# Altium footprint library pedals-switches.PCBLIB: 26 footprints (part 1 of 2)
Each footprint in its own frame and in the unit in brackets; x right, y up, seen from the top. Pads: shape width x height; smd on the part's side, far side on the other; paste and mask are expansions set on the pad; w line width, h text height; cw(c..) or ccw(c..) is an arc to the next point about the centre after c.
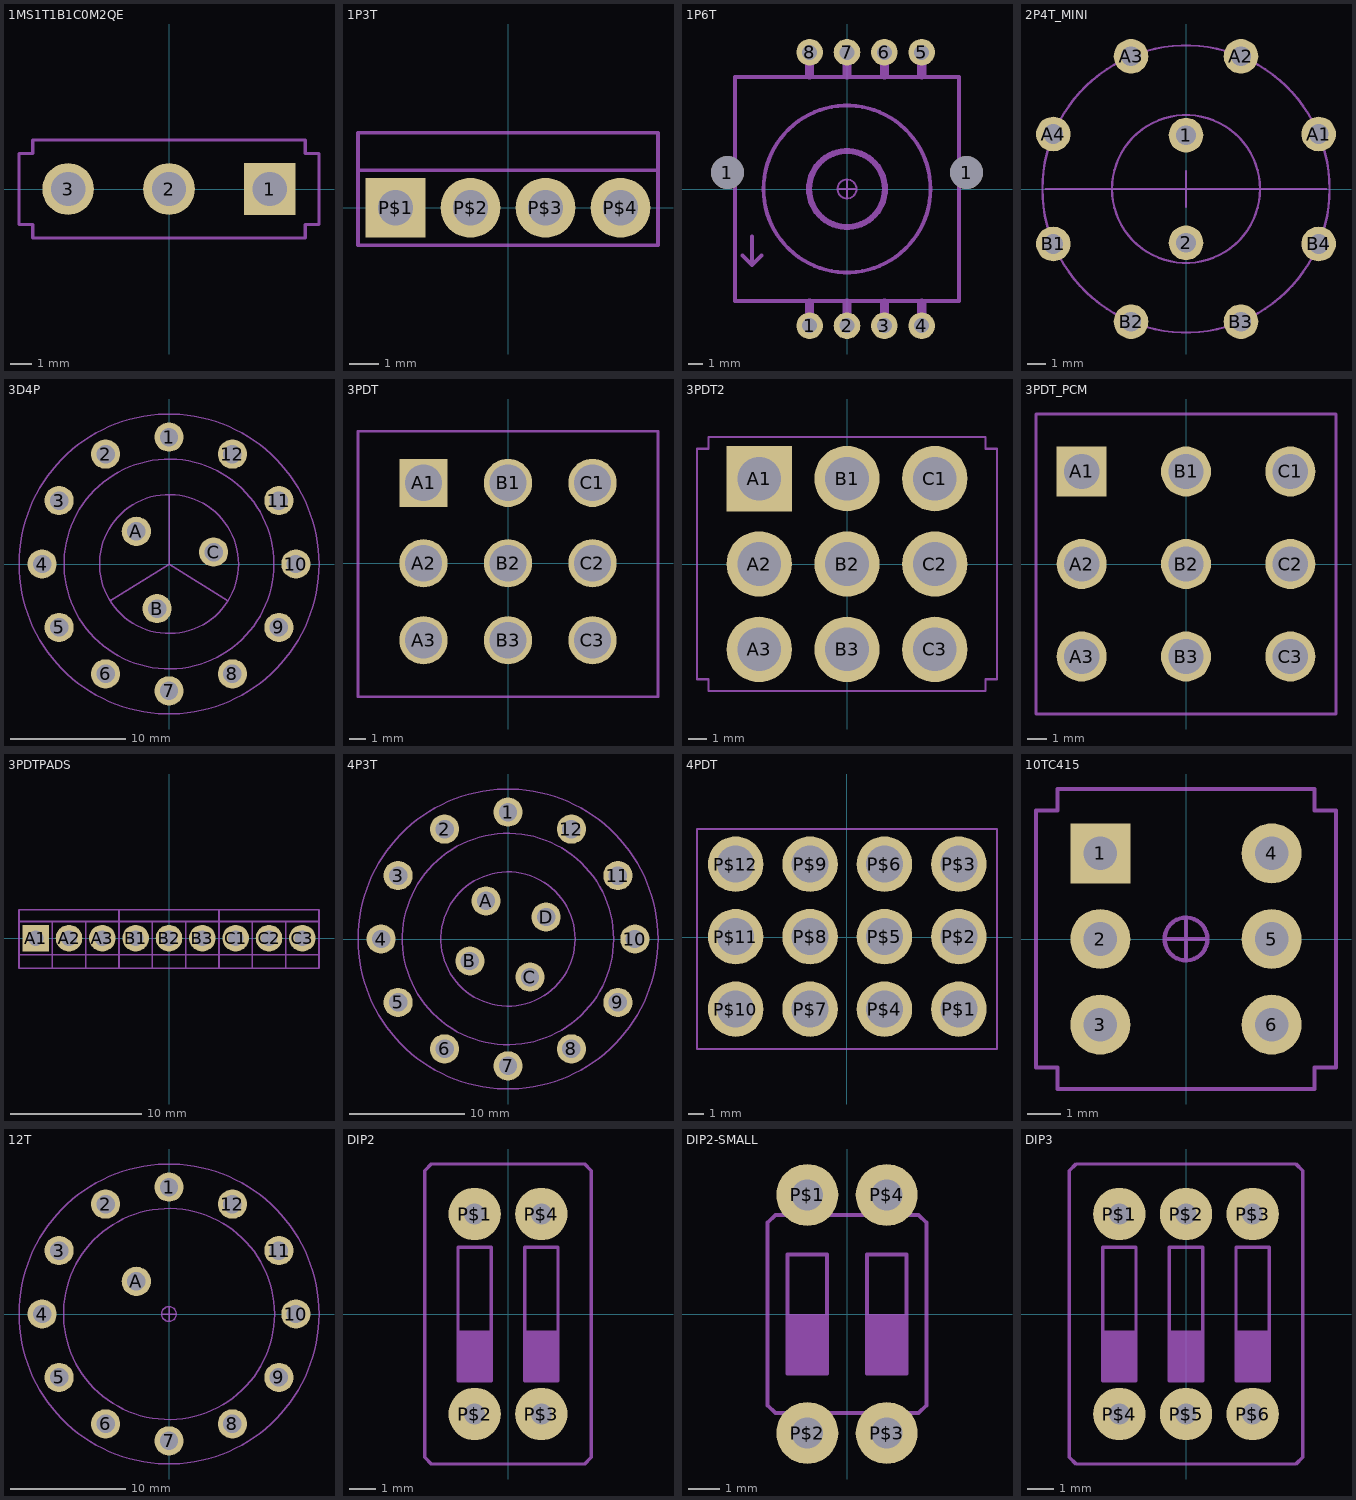
[diagram p0: the footprints below, top view; thin cyan lines are the x and y axes]

## 1MS1T1B1C0M2QE [mil]
pads (3):
  rect 94.48x94.48 hole 62.99: 1(185,0)
  round 94.48 hole 62.99: 2(0,0) 3(-185,0)
Mechanical 2:
  lines w6: -275,-65 -250,-65 -250,-90 250,-90 250,-65 275,-65 275,65 250,65 250,70 250,90 -250,90 -250,70 -250,65 -275,65 -275,-65
Mechanical 3:
  lines w5: -25,0 25,0 ; 0,-25 0,25
  lines w6: -275,-65 -275,65 -250,65 -250,70 -250,90 250,90 250,70 250,65 275,65 275,-65 250,-65 250,-90 -250,-90 -250,-65 -275,-65

## 1P3T [mil]
pads (4):
  rect 80x80 hole 47.24: P$1(-150,0)
  round 80 hole 47.24: P$2(-50,0) P$3(50,0) P$4(150,0)
Mechanical 2:
  lines w5: -200,50 200,50 ; -200,50 -200,-50 200,-50 200,50 ; -200,50 -200,100 200,100 200,50

## 1P6T [mil]
pads (10):
  round 86.61 hole 86.61: 1(-314.96,43.31) 1(314.96,43.31)
  round 70 hole 39.37: 1(-98.43,-360.24) 2(0,-360.24) 3(98.43,-360.24) 4(196.85,-360.24) 5(196.85,360.24) 6(98.43,360.24) 7(0,360.24) 8(-98.43,360.24)
Mechanical 3:
  circle w10: c0,0 r220.08
  circle w16: c0,0 r100
  circle w5: c0,0 r25
  lines w5: -25,0 25,0 ; 0,-25 0,25
  lines w10: -275,-175 -250,-200 ; -250,-125 -250,-200 ; -225,-175 -250,-200 ; -295.28,-295.28 295.28,-295.28 295.28,295.28 -295.28,295.28 -295.28,-295.28
  lines w24: -98.43,-350 -98.43,-300 ; -98.43,300 -98.43,350 ; 0,-350 0,-300 ; 0,300 0,350 ; 98.43,-350 98.43,-300 ; 98.43,300 98.43,350 ; 196.85,-350 196.85,-300 ; 196.85,300 196.85,350

## 2P4T_MINI [mil]
pads (10):
  round 76 hole 43.31: 1(0,118.11) 2(0,-118.11) A1(290.99,120.53) A2(120.53,290.99) A3(-120.53,290.99) A4(-290.99,120.53) B1(-290.99,-120.53) B2(-120.53,-290.99) B3(120.53,-290.99) B4(290.99,-120.53)
Mechanical 2:
  circle w5: c0,0 r314.96
  circle w5: c0,0 r162.33
  lines w5: -307.48,0 307.48,0 ; 0,-39.37 0,39.37
Mechanical 3:
  circle w5: c0,0 r314.96
  circle w5: c0,0 r162.33
  lines w5: -307.48,0 307.48,0 ; 0,-39.37 0,39.37

## 3D4P [mil]
pads (15):
  round 100 hole 62.99: 1(0,433.04) 2(-216.52,375.03) 3(-375.02,216.52) 4(-433.04,0) 5(-375.02,-216.51) 6(-216.52,-375.02) 7(0,-433.03) 8(216.51,-375.02) 9(375.01,-216.51) 10(433.02,0) 11(375.01,216.51) 12(216.51,375) A(-111.35,111.35) B(-40.76,-152.11) C(152.11,40.75)
Mechanical 2:
  circle w5: c0,0 r511.81
  circle w5: c0,0 r357.94
  circle w5: c0,0 r237.17
  lines w5: -200,-125 0,0 ; 0,235 0,0 ; 200,-125 0,0
Mechanical 3:
  circle w5: c0,0 r511.81
  circle w5: c0,0 r357.94
  circle w5: c0,0 r237.17
  lines w5: -200,-125 0,0 ; 0,235 0,0 ; 200,-125 0,0

## 3PDT [mil]
pads (9):
  rect 114.17x114.17 hole 86.61: A1(-200,190)
  round 114.17 hole 86.61: A2(-200,0) A3(-200,-182.5) B1(0,190) B2(0,0) B3(0,-182.5) C1(200,190) C2(200,0) C3(200,-182.5)
Mechanical 2:
  lines w6: -355.12,-315.75 355.12,-315.75 355.12,311.81 -355.12,311.81 -355.12,-315.75

## 3PDT2 [mm]
pads (9):
  rect 3.6x3.6 hole 2.4: A1(-4.83,4.7)
  round 3.6 hole 2.4: A2(-4.83,0) A3(-4.83,-4.7) B1(0,4.7) B2(0,0) B3(0,-4.7) C1(4.83,4.7) C2(4.83,0) C3(4.83,-4.7)
Mechanical 2:
  lines w0.127: -8.255,-6.35 -8.255,6.35 -7.62,6.35 -7.62,6.985 7.62,6.985 7.62,6.35 8.255,6.35 8.255,-6.35 7.62,-6.35 7.62,-6.985 -7.62,-6.985 -7.62,-6.35 -8.255,-6.35
Mechanical 3:
  circle w0.127: c0,0 r0.635
  lines w0.127: -0.635,0 0.635,0 ; 0,-0.635 0,0.635 ; -8.255,-6.35 -7.62,-6.35 -7.62,-6.985 7.62,-6.985 7.62,-6.35 8.255,-6.35 8.255,6.35 7.62,6.35 7.62,6.985 -7.62,6.985 -7.62,6.35 -8.255,6.35 -8.255,-6.35

## 3PDT_PCM [mm]
pads (9):
  rect 2.54x2.54 hole 1.8: A1(-5.3,4.7)
  round 2.54 hole 1.8: A2(-5.3,0) A3(-5.3,-4.7) B1(0,4.7) B2(0,0) B3(0,-4.7) C1(5.3,4.7) C2(5.3,0) C3(5.3,-4.7)
Mechanical 2:
  lines w0.152: -7.62,-7.62 7.62,-7.62 7.62,7.62 -7.62,7.62 -7.62,-7.62
Mechanical 3:
  lines w0.152: -7.62,-7.62 -7.62,7.62 7.62,7.62 7.62,-7.62 -7.62,-7.62

## 3PDTPADS [mil]
pads (9):
  rect 80x80 hole 47.24: A1(-400,0)
  round 80 hole 47.24: A2(-300,0) A3(-200,0) B1(-100,0) B2(0,0) B3(100,0) C1(200,0) C2(300,0) C3(400,0)
Mechanical 2:
  lines w5: -450,-50 -350,-50 ; -450,-50 -450,50 ; -450,-50 -450,-90 -350,-90 ; -450,50 -350,50 ; -450,50 -450,85 -150,85 ; -350,-90 -250,-90 ; -350,-90 -350,-50 ; -350,-50 -250,-50 ; -350,-50 -350,50 ; -350,50 -250,50 ; -250,-90 -150,-90 ; -250,-90 -250,-50 ; -250,-50 -150,-50 ; -250,-50 -250,50 ; -250,50 -150,50 ; -150,-90 -50,-90 ; -150,-90 -150,-50 ; -150,-50 -50,-50 ; -150,-50 -150,50 ; -150,50 -50,50 ; -150,50 -150,85 ; -150,85 150,85 ; -50,-90 50,-90 ; -50,-90 -50,-50 ; -50,-50 50,-50 ; -50,-50 -50,50 ; -50,50 50,50 ; 50,-90 150,-90 ; 50,-90 50,-50 ; 50,-50 150,-50 ; 50,-50 50,50 ; 50,50 150,50 ; 150,-90 250,-90 ; 150,-90 150,-50 ; 150,-50 250,-50 ; 150,-50 150,50 ; 150,50 250,50 ; 150,50 150,85 ; 150,85 450,85 450,50 ; 250,-90 350,-90 ; 250,-90 250,-50 ; 250,-50 350,-50 ; 250,-50 250,50 ; 250,50 350,50 ; 350,-90 450,-90 450,-50 ; 350,-90 350,-50 ; 350,-50 450,-50 ; 350,-50 350,50 ; 350,50 450,50 ; 450,-50 450,50

## 4P3T [mil]
pads (16):
  round 100 hole 62.99: 1(0,433.04) 2(-216.52,375.03) 3(-375.02,216.52) 4(-433.04,0) 5(-375.02,-216.51) 6(-216.52,-375.02) 7(0,-433.03) 8(216.51,-375.02) 9(375.01,-216.51) 10(433.02,0) 11(375.01,216.51) 12(216.51,375) A(-75,129.9) B(-129.9,-75) C(75,-129.9) D(129.9,75)
Mechanical 2:
  circle w5: c0,0 r511.81
  circle w5: c0,0 r360.56
  circle w5: c0,0 r229.02

## 4PDT [mil]
pads (12):
  round 141.74 hole 94.49: P$1(285.83,-183.46) P$2(285.83,1.54) P$3(285.83,186.54) P$4(95.83,-183.46) P$5(95.83,1.54) P$6(95.83,186.54) P$7(-94.17,-183.46) P$8(-94.17,1.54) P$9(-94.17,186.54) P$10(-284.17,-183.46) P$11(-284.17,1.54) P$12(-284.17,186.54)
Mechanical 2:
  lines w5: -382.87,-285.43 383.27,-285.43 383.27,276.38 -382.87,276.38 -382.87,-285.43

## 10TC415 [mil]
pads (6):
  rect 70x70 hole 39.37: 1(-100,100)
  round 70 hole 39.37: 2(-100,0) 3(-100,-100) 4(100,100) 5(100,0) 6(100,-100)
Mechanical 2:
  lines w5: -175,-150 -150,-150 -150,-175 150,-175 150,-150 175,-150 175,150 150,150 150,175 -150,175 -150,150 -175,150 -175,-125 -175,-150
Mechanical 3:
  circle w5: c0,0 r25
  lines w5: -25,0 25,0 ; 0,-25 0,25 ; -175,-150 -175,150 -150,150 -150,175 150,175 150,150 175,150 175,-125 175,-150 150,-150 150,-175 -150,-175 -150,-150 -175,-150

## 12T [mil]
pads (13):
  round 100 hole 62.99: 1(0,433.04) 2(-216.52,375.03) 3(-375.02,216.52) 4(-433.04,0) 5(-375.02,-216.51) 6(-216.52,-375.02) 7(0,-433.03) 8(216.51,-375.02) 9(375.01,-216.51) 10(433.02,0) 11(375.01,216.51) 12(216.51,375) A(-111.35,111.35)
Mechanical 2:
  circle w5: c0,0 r360.03
  circle w5: c0,0 r511.81
Mechanical 3:
  circle w5: c0,0 r25
  circle w5: c0,0 r360.03
  circle w5: c0,0 r511.81
  lines w5: -25,0 25,0 ; 0,-25 0,25

## DIP2 [mm]
pads (4):
  round 2 hole 0.8: P$1(-1.27,3.81) P$2(-1.27,-3.81) P$3(1.27,-3.81) P$4(1.27,3.81)
Mechanical 2:
  rectangle: -1.905,-2.54 -0.635,-0.635
  rectangle: 0.635,-2.54 1.905,-0.635
  lines w0.127: -3.175,-5.461 -2.921,-5.715 2.921,-5.715 3.175,-5.461 3.175,5.461 2.921,5.715 -2.921,5.715 -3.175,5.461 -3.175,-5.461 ; -1.905,-2.54 -0.635,-2.54 -0.635,2.54 -1.905,2.54 -1.905,-2.54 ; 0.635,-2.54 1.905,-2.54 1.905,2.54 0.635,2.54 0.635,-2.54

## DIP2-SMALL [mil]
pads (4):
  round 78 hole 39.37: P$1(-50,150) P$2(-50,-150) P$3(50,-150) P$4(50,150)
Mechanical 2:
  rectangle: -75,-75 -25,0
  rectangle: 25,-75 75,0
  lines w5: -100,-115 -90,-125 90,-125 100,-115 100,115 90,125 -90,125 -100,115 -100,-115 ; -75,-75 -25,-75 -25,75 -75,75 -75,-75 ; 25,-75 75,-75 75,75 25,75 25,-75

## DIP3 [mm]
pads (6):
  round 2 hole 0.8: P$1(-2.54,3.81) P$2(0,3.81) P$3(2.54,3.81) P$4(-2.54,-3.81) P$5(0,-3.81) P$6(2.54,-3.81)
Mechanical 2:
  rectangle: -3.175,-2.54 -1.905,-0.635
  rectangle: -0.635,-2.54 0.635,-0.635
  rectangle: 1.905,-2.54 3.175,-0.635
  lines w0.127: -4.445,-5.461 -4.191,-5.715 4.191,-5.715 4.445,-5.461 4.445,5.461 4.191,5.715 -4.191,5.715 -4.445,5.461 -4.445,-5.461 ; -3.175,-2.54 -1.905,-2.54 -1.905,2.54 -3.175,2.54 -3.175,-2.54 ; -0.635,-2.54 0.635,-2.54 0.635,2.54 -0.635,2.54 -0.635,-2.54 ; 1.905,-2.54 1.905,2.54 3.175,2.54 3.175,-2.54 1.905,-2.54